# Altium footprint library MAX-M10.PcbLib: 1 footprints
Each footprint in its own frame and in the unit in brackets; x right, y up, seen from the top. Pads: shape width x height; smd on the part's side, far side on the other; paste and mask are expansions set on the pad; w line width, h text height; cw(c..) or ccw(c..) is an arc to the next point about the centre after c.
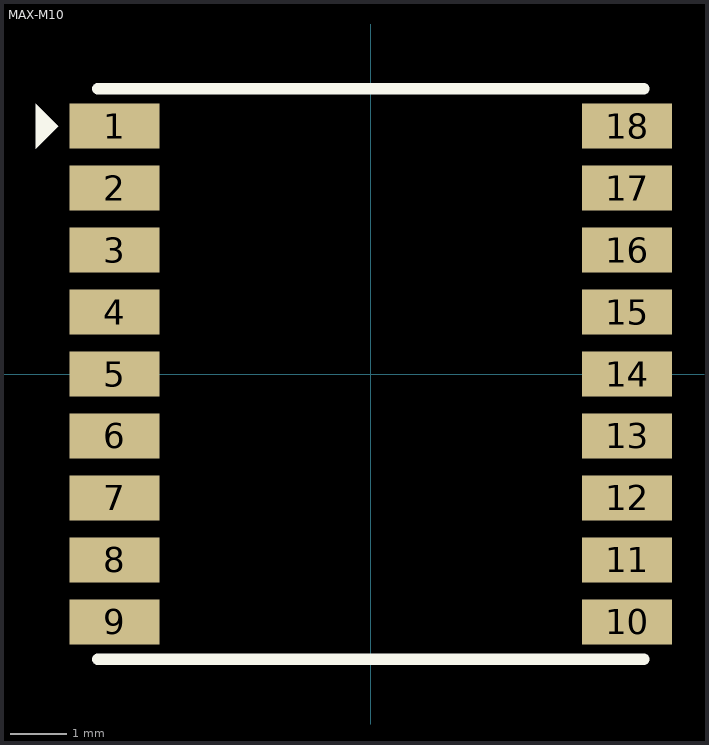
[diagram p0: the footprint, top view; thin cyan lines are the x and y axes]

## MAX-M10 [mm]
pads (18):
  rect 1.6x0.8 smd: 1(-4.55,4.4) 2(-4.55,3.3) 3(-4.55,2.2) 4(-4.55,1.1) 5(-4.55,0) 6(-4.55,-1.1) 7(-4.55,-2.2) 8(-4.55,-3.3) 9(-4.55,-4.4) 10(4.55,-4.4) 11(4.55,-3.3) 12(4.55,-2.2) 13(4.55,-1.1) 14(4.55,0) 15(4.55,1.1) 16(4.55,2.2) 17(4.55,3.3) 18(4.55,4.4)
Top Overlay:
  region: -5.95,4 -5.95,4.8 -5.55,4.4
  lines w0.2: -4.85,-5.064 4.85,-5.064 ; -4.85,5.064 4.85,5.064
3D body "step_temp.STEP": height 2.7, standoff 0, extent -4.85,-5.05 4.85,5.05